# Altium footprint library 691 318 500 0xx.PcbLib: 6 footprints
Each footprint in its own frame and in the unit in brackets; x right, y up, seen from the top. Pads: shape width x height; smd on the part's side, far side on the other; paste and mask are expansions set on the pad; w line width, h text height; cw(c..) or ccw(c..) is an arc to the next point about the centre after c.
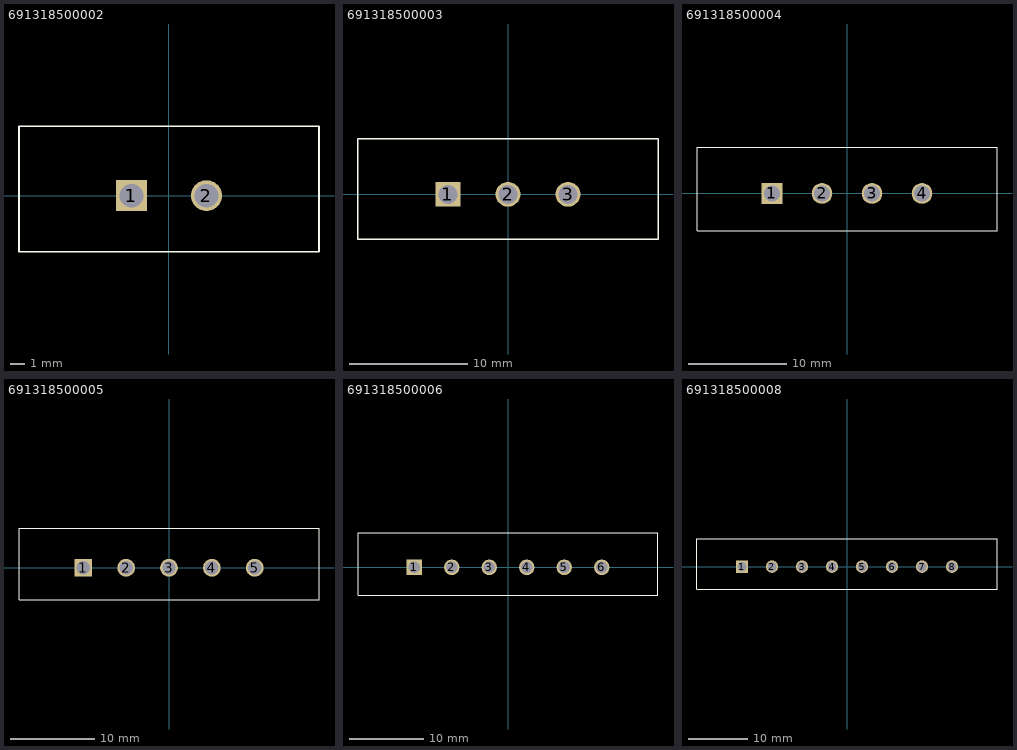
[diagram p0: the footprints below, top view; thin cyan lines are the x and y axes]

## 691318500002 [mm] "5,08mm - Closed Vertical PCB Header with Flanges - 02p"
height 12
pads (2):
  rect 2.1x2.1 hole 1.6: 1(-2.54,0)
  round 2.1 hole 1.6: 2(2.54,0)
Top Overlay:
  lines w0.127: -10.16,-3.8 10.16,-3.8 10.16,4.7 -10.16,4.7 -10.16,-3.8
3D body: height 12.01, standoff -3.99, extent -10.16,-3.8 10.16,4.7

## 691318500003 [mm] "5,08mm - Closed Vertical PCB Header with Flanges - 03p"
height 12
pads (3):
  rect 2.1x2.1 hole 1.6: 1(-5.08,0)
  round 2.1 hole 1.6: 2(0,0) 3(5.08,0)
Top Overlay:
  lines w0.127: -12.7,-3.8 -12.7,4.7 12.7,4.7 12.7,-3.8 -12.7,-3.8
3D body: height 12.01, standoff -3.99, extent -12.7,-3.8 12.7,4.7

## 691318500004 [mm] "5,08mm - Closed Vertical PCB Header with Flanges - 04p"
height 12
pads (4):
  rect 2.1x2.1 hole 1.6: 1(-7.62,0)
  round 2.1 hole 1.6: 2(-2.54,0) 3(2.54,0) 4(7.62,0)
Top Overlay:
  lines w0.127: -15.24,-3.8 -15.24,4.7 15.24,4.7 15.24,-3.8 -15.24,-3.8
3D body: height 12.01, standoff -3.99, extent -15.24,-3.8 15.24,4.7

## 691318500005 [mm] "5,08mm - Closed Vertical PCB Header with Flanges - 05p"
height 12
pads (5):
  rect 2.1x2.1 hole 1.6: 1(-10.16,0)
  round 2.1 hole 1.6: 2(-5.08,0) 3(0,0) 4(5.08,0) 5(10.16,0)
Top Overlay:
  lines w0.127: -17.78,-3.8 17.78,-3.8 17.78,4.7 -17.78,4.7 -17.78,-3.8
3D body: height 12.01, standoff -3.99, extent -17.78,-3.8 17.78,4.7

## 691318500006 [mm] "5,08mm - Closed Vertical PCB Header with Flanges - 06p"
height 12
pads (6):
  rect 2.1x2.1 hole 1.6: 1(-12.7,0)
  round 2.1 hole 1.6: 2(-7.62,0) 3(-2.54,0) 4(2.54,0) 5(7.62,0) 6(12.7,0)
Top Overlay:
  lines w0.127: -20.32,-3.8 -20.32,4.7 20.32,4.7 20.32,-3.8 -20.32,-3.8
3D body: height 12.01, standoff -3.99, extent -20.32,-3.8 20.32,4.7

## 691318500008 [mm] "5,08mm - Closed Vertical PCB Header with Flanges - 08p"
height 12
pads (8):
  rect 2.1x2.1 hole 1.6: 1(-17.78,0)
  round 2.1 hole 1.6: 2(-12.7,0) 3(-7.62,0) 4(-2.54,0) 5(2.54,0) 6(7.62,0) 7(12.7,0) 8(17.78,0)
Top Overlay:
  lines w0.127: -25.4,-3.8 25.4,-3.8 25.4,4.7 -25.4,4.7 -25.4,-3.8
3D body: height 12.01, standoff -3.99, extent -25.4,-3.8 25.4,4.7